# Altium integrated library HFKC-012-HST_DG20-8011-35-1012.IntLib: 1 symbol
Pins are listed as number, name and electrical type; pins without a type are passive.

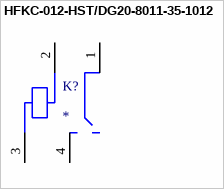
[diagram p0: symbol HFKC-012-HST/DG20-8011-35-1012]

## HFKC-012-HST/DG20-8011-35-1012
designator K?
Automotive Relay, Spdt, 12vdc, 30a / 1: HFKC-012-HST / 2: DG20-8011-35-1012; MF: Durakool; Package: None; SnapEDA_Link: https://www.snapeda.com/parts/DG20-8011-35-1012/Durakool/view-part/563750/?ref=snap; MP: DG20-8011-35-1012; Value: *; Availability: Unavailable; Price: None
footprint RELAY_DG20-8011-35-1012
pins: 1, 2, 3, 4